# Altium integrated library TI_Logic_Flip-Flop,Latch,Register.IntLib: 2598 symbols (part 50 of 122)
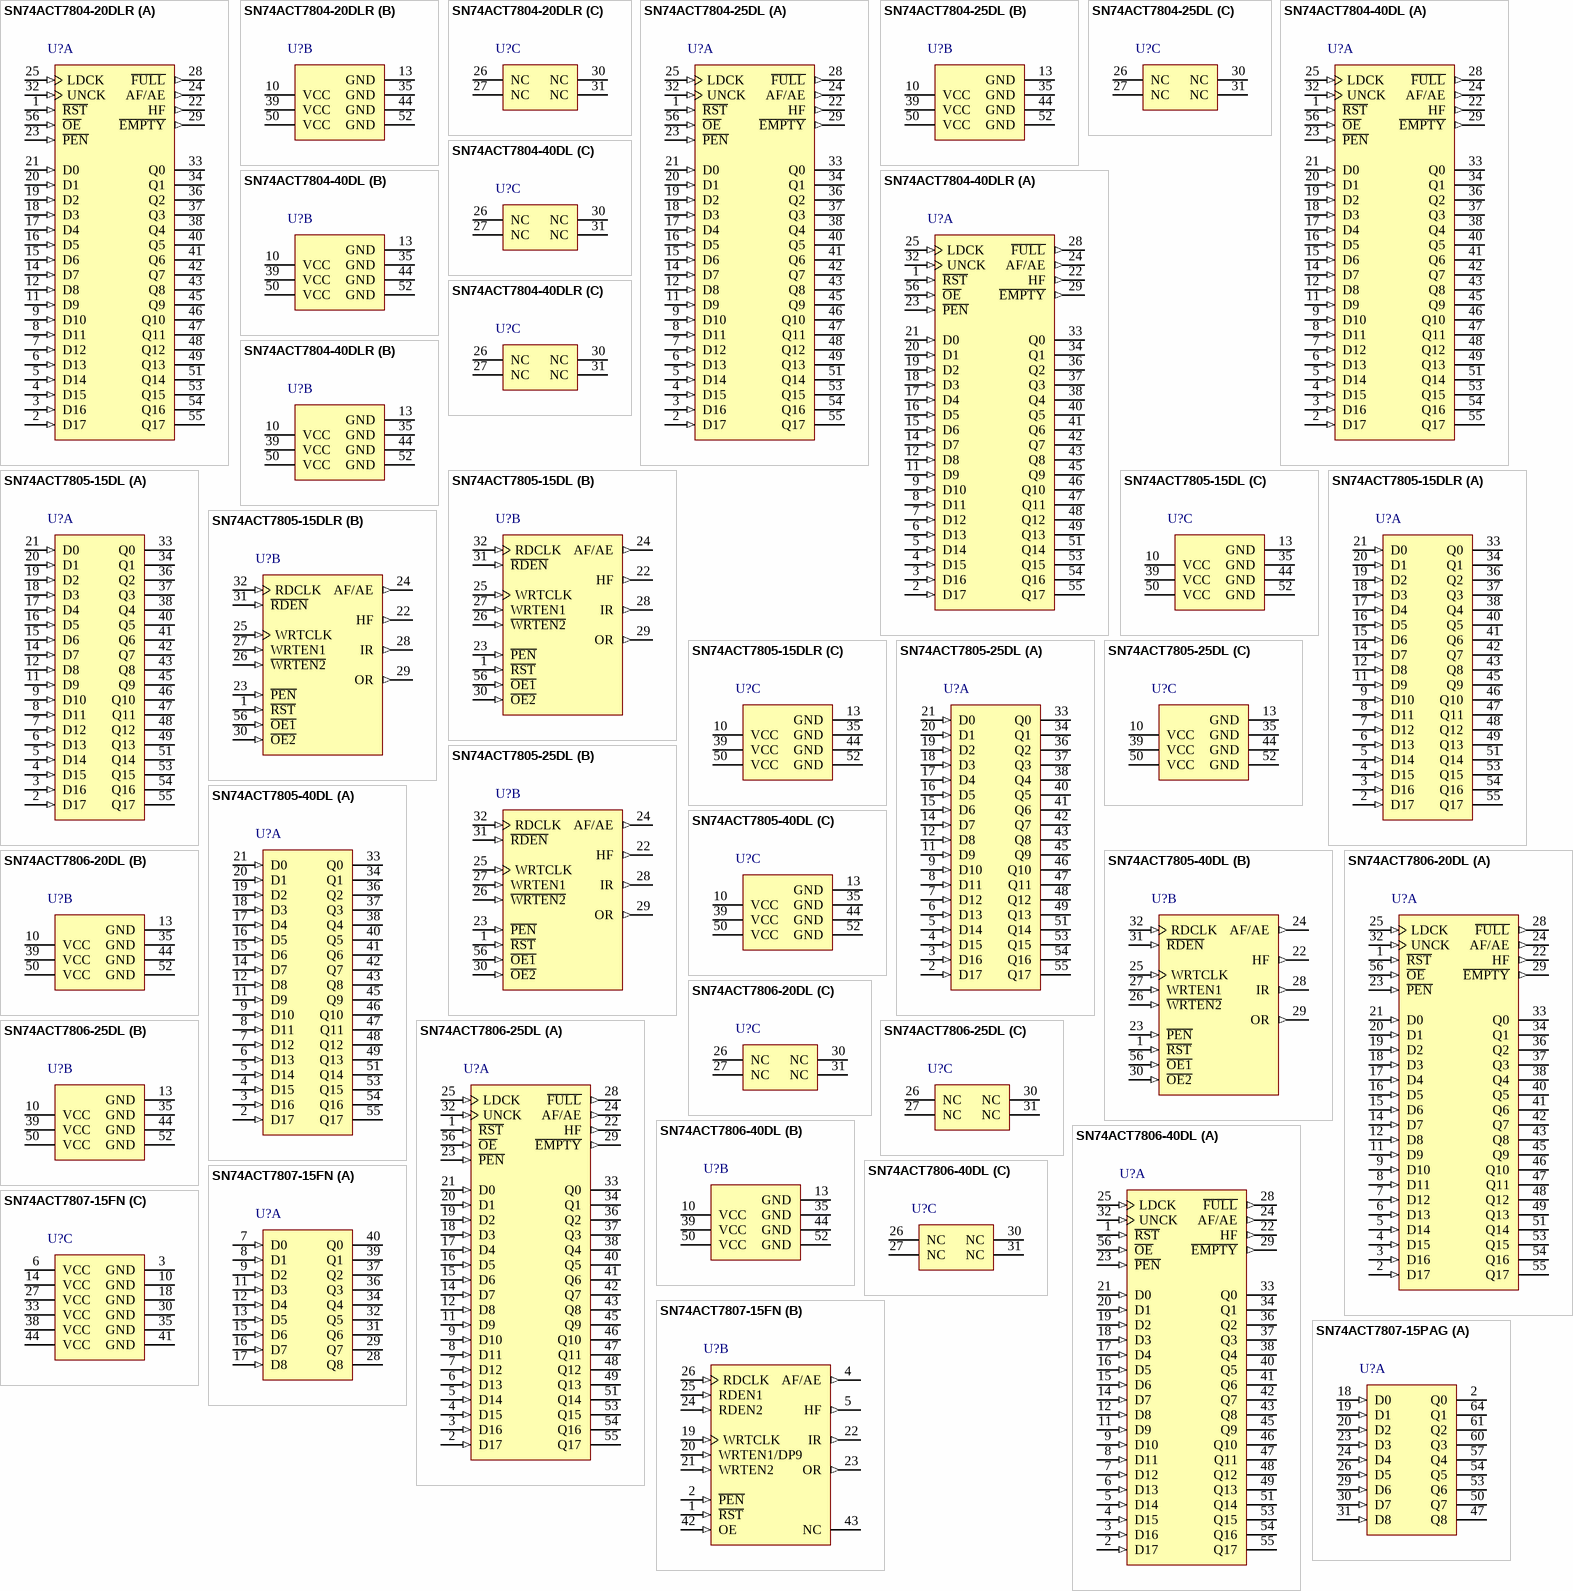
[diagram p188: symbols SN74ACT7804-20DLR to SN74ACT7807-15PAG]

## SN74ACT7805-40DL
designator U?
256 x 18 synchronous FIFO memory, DL0056A, TUBE; Generic Part Number: SN74ACT7805; Manufacturer: Texas Instruments; PartNumber: SN74ACT7805-40DL; Fmax(MHz): 67; Voltage Nodes(V): 5; Sync/Async: S; Rating: Catalog; Output Drive(mA): -0.5; DatasheetVersion: SCAS201B; PackageReference: DL0056A; Depth: 256; Width: 18; Code_JEDEC: MO-118; ComponentLink1Description: Manufacturer URL; ComponentLink1URL: http://www.ti.com/; ComponentLink2Description: Datasheet; ComponentLink2URL: http://www.ti.com/lit/ds/symlink/sn74act7805.pdf; ComponentLink3Description: Package Specification; ComponentLink3URL: http://www.ti.com/lit/ml/mpds491/mpds491.pdf
footprint DL0056A_N (SOP, 56-Leads, Body 7.6x18.5mm, Pitch 0.635mm, IPC Medium Density)
footprint DL0056A_M (SOP, 56-Leads, Body 7.6x18.5mm, Pitch 0.635mm, IPC Low Density)
footprint DL0056A_L (SOP, 56-Leads, Body 7.6x18.5mm, Pitch 0.635mm, IPC High Density)
part A pins: 2 D17 (in) "18-bit data input port", 3 D16 (in) "18-bit data input port", 4 D15 (in) "18-bit data input port", 5 D14 (in) "18-bit data input port", 6 D13 (in) "18-bit data input port", 7 D12 (in) "18-bit data input port", 8 D11 (in) "18-bit data input port", 9 D10 (in) "18-bit data input port", 11 D9 (in) "18-bit data input port", 12 D8 (in) "18-bit data input port", 14 D7 (in) "18-bit data input port", 15 D6 (in) "18-bit data input port", 16 D5 (in) "18-bit data input port", 17 D4 (in) "18-bit data input port", 18 D3 (in) "18-bit data input port", 19 D2 (in) "18-bit data input port", 20 D1 (in) "18-bit data input port", 21 D0 (in) "18-bit data input port", 33 Q0 (hiz) "18-bit data output port. After the first valid write to empty memory, the first word is output on Q0-Q17 on the third rising edge of RDCLK. OR is also asserted high at this time to indicate ready data. When OR is low, th(See Datasheet)", 34 Q1 (hiz) "18-bit data output port. After the first valid write to empty memory, the first word is output on Q0-Q17 on the third rising edge of RDCLK. OR is also asserted high at this time to indicate ready data. When OR is low, th(See Datasheet)", 36 Q2 (hiz) "18-bit data output port. After the first valid write to empty memory, the first word is output on Q0-Q17 on the third rising edge of RDCLK. OR is also asserted high at this time to indicate ready data. When OR is low, th(See Datasheet)", 37 Q3 (hiz) "18-bit data output port. After the first valid write to empty memory, the first word is output on Q0-Q17 on the third rising edge of RDCLK. OR is also asserted high at this time to indicate ready data. When OR is low, th(See Datasheet)", 38 Q4 (hiz) "18-bit data output port. After the first valid write to empty memory, the first word is output on Q0-Q17 on the third rising edge of RDCLK. OR is also asserted high at this time to indicate ready data. When OR is low, th(See Datasheet)", 40 Q5 (hiz) "18-bit data output port. After the first valid write to empty memory, the first word is output on Q0-Q17 on the third rising edge of RDCLK. OR is also asserted high at this time to indicate ready data. When OR is low, th(See Datasheet)", 41 Q6 (hiz) "18-bit data output port. After the first valid write to empty memory, the first word is output on Q0-Q17 on the third rising edge of RDCLK. OR is also asserted high at this time to indicate ready data. When OR is low, th(See Datasheet)", 42 Q7 (hiz) "18-bit data output port. After the first valid write to empty memory, the first word is output on Q0-Q17 on the third rising edge of RDCLK. OR is also asserted high at this time to indicate ready data. When OR is low, th(See Datasheet)", 43 Q8 (hiz) "18-bit data output port. After the first valid write to empty memory, the first word is output on Q0-Q17 on the third rising edge of RDCLK. OR is also asserted high at this time to indicate ready data. When OR is low, th(See Datasheet)", 45 Q9 (hiz) "18-bit data output port. After the first valid write to empty memory, the first word is output on Q0-Q17 on the third rising edge of RDCLK. OR is also asserted high at this time to indicate ready data. When OR is low, th(See Datasheet)", 46 Q10 (hiz) "18-bit data output port. After the first valid write to empty memory, the first word is output on Q0-Q17 on the third rising edge of RDCLK. OR is also asserted high at this time to indicate ready data. When OR is low, th(See Datasheet)", 47 Q11 (hiz) "18-bit data output port. After the first valid write to empty memory, the first word is output on Q0-Q17 on the third rising edge of RDCLK. OR is also asserted high at this time to indicate ready data. When OR is low, th(See Datasheet)", 48 Q12 (hiz) "18-bit data output port. After the first valid write to empty memory, the first word is output on Q0-Q17 on the third rising edge of RDCLK. OR is also asserted high at this time to indicate ready data. When OR is low, th(See Datasheet)", 49 Q13 (hiz) "18-bit data output port. After the first valid write to empty memory, the first word is output on Q0-Q17 on the third rising edge of RDCLK. OR is also asserted high at this time to indicate ready data. When OR is low, th(See Datasheet)", 51 Q14 (hiz) "18-bit data output port. After the first valid write to empty memory, the first word is output on Q0-Q17 on the third rising edge of RDCLK. OR is also asserted high at this time to indicate ready data. When OR is low, th(See Datasheet)", 53 Q15 (hiz) "18-bit data output port. After the first valid write to empty memory, the first word is output on Q0-Q17 on the third rising edge of RDCLK. OR is also asserted high at this time to indicate ready data. When OR is low, th(See Datasheet)", 54 Q16 (hiz) "18-bit data output port. After the first valid write to empty memory, the first word is output on Q0-Q17 on the third rising edge of RDCLK. OR is also asserted high at this time to indicate ready data. When OR is low, th(See Datasheet)", 55 Q17 (hiz) "18-bit data output port. After the first valid write to empty memory, the first word is output on Q0-Q17 on the third rising edge of RDCLK. OR is also asserted high at this time to indicate ready data. When OR is low, th(See Datasheet)"
part B pins: 1 ~{RST} (in) "Reset. To reset the FIFO, four low-to-high transitions of RDCLK and four low-to-high transitions of WRTCLK must occur while R\E\S\E\T\ is low. This sets HF, IR, and OR low and AF/AE high.", 22 HF (out) "Half-full flag. HF is high when the FIFO memory contains 256 or more words. HF is low after reset.", 23 ~{PEN} (in) "Program enable. After reset and before the first word is written to the FIFO, the binary value on D0-D7 is latched as an AF/AE offset value when P\E\N\ is low and WRTCLK is high", 24 AF/AE (out) "Almost-full/almost-empty flag. Depth offset values can be programmed for AF/AE, or the default value of 64 can be used for both the almost-empty offset (X) and the almost-full offset (Y). AF/AE is high when memory contains X (See Datasheet)", 25 WRTCLK (in) "Write clock. WRTCLK is a continuous clock and can be asynchronous or coincident to RDCLK. A low-to-high transition of WRTCLK writes data to memory when W\R\T\E\N\2\ is low, WRTEN1 is high, and IR is high. IR is synchronous (See Datasheet)", 26 ~{WRTEN2} (in) "Write enables. When WRTEN1 is high, W\R\T\E\N\2\ is low, and IR is high, data is written to the FIFO on a low-to-high transition of WRTCLK.", 27 WRTEN1 (in) "Write enables. When WRTEN1 is high, W\R\T\E\N\2\ is low, and IR is high, data is written to the FIFO on a low-to-high transition of WRTCLK.", 28 IR (out) "Input ready flag. IR is synchronized to the low-to-high transition of WRTCLK. When IR is low, the FIFO is full and writes are disabled. IR is low during reset and goes high on the second low-to-high transition of WRTCLK (See Datasheet)", 29 OR (out) "Output ready flag. OR is synchronized to the low-to-high transition of RDCLK. When OR is low, the FIFO is empty and reads are disabled. Ready data is present on Q0-Q17 when OR is high. OR is low during reset and goes hig(See Datasheet)", 30 ~{OE2} (in) "Output enables. When O\E\1\, O\E\2\, and R\D\E\N\ are low and OR is high, data is read from the FIFO on a low-to-high transition of RDCLK. When either O\E\1\ or O\E\2\ is high, reads are disabled and the data outputs are in (See Datasheet)", 31 ~{RDEN} (in) "Read enable. When R\D\E\N\, O\E\1\, and O\E\2\ are low and OR is high, data is read from the FIFO on the low-to-high transition of RDCLK.", 32 RDCLK (in) "Read clock. RDCLK is a continuous clock and can be asynchronous or coincident to WRTCLK. A low-to-high transition of RDCLK reads data from memory when O\E\1\, O\E\2\, and R\D\E\N\ are low and OR is high. OR is synchronous to (See Datasheet)", 56 ~{OE1} (in) "Output enables. When O\E\1\, O\E\2\, and R\D\E\N\ are low and OR is high, data is read from the FIFO on a low-to-high transition of RDCLK. When either O\E\1\ or O\E\2\ is high, reads are disabled and the data outputs are in (See Datasheet)"
part C pins: 10 VCC (power), 13 GND (power), 35 GND (power), 39 VCC (power), 44 GND (power), 50 VCC (power), 52 GND (power)

## SN74ACT7806-20DL
designator U?
256 x 18 asynchronous FIFO memory, DL0056A, TUBE; Generic Part Number: SN74ACT7806; Manufacturer: Texas Instruments; PartNumber: SN74ACT7806-20DL; Vcc range(V): 4.5 to 5.5; Fmax(MHz): 50; Voltage Nodes(V): 5; Sync/Async: A; Rating: Catalog; Output Drive(mA): -0.5; DatasheetVersion: SCAS438C; PackageReference: DL0056A; Depth: 256; Width: 18; Code_JEDEC: MO-118; ComponentLink1Description: Manufacturer URL; ComponentLink1URL: http://www.ti.com/; ComponentLink2Description: Datasheet; ComponentLink2URL: http://www.ti.com/lit/ds/symlink/sn74act7806.pdf; ComponentLink3Description: Package Specification; ComponentLink3URL: http://www.ti.com/lit/ml/mpds491/mpds491.pdf
footprint DL0056A_N (SOP, 56-Leads, Body 7.6x18.5mm, Pitch 0.635mm, IPC Medium Density)
footprint DL0056A_M (SOP, 56-Leads, Body 7.6x18.5mm, Pitch 0.635mm, IPC Low Density)
footprint DL0056A_L (SOP, 56-Leads, Body 7.6x18.5mm, Pitch 0.635mm, IPC High Density)
part A pins: 1 ~{RST} (in) "Reset. A low level on R\E\S\E\T\ resets the FIFO and drives AF/AE and F\U\L\L\ high and HF and E\M\P\T\Y\ low.", 2 D17 (in) "18-bit data input port", 3 D16 (in) "18-bit data input port", 4 D15 (in) "18-bit data input port", 5 D14 (in) "18-bit data input port", 6 D13 (in) "18-bit data input port", 7 D12 (in) "18-bit data input port", 8 D11 (in) "18-bit data input port", 9 D10 (in) "18-bit data input port", 11 D9 (in) "18-bit data input port", 12 D8 (in) "18-bit data input port", 14 D7 (in) "18-bit data input port", 15 D6 (in) "18-bit data input port", 16 D5 (in) "18-bit data input port", 17 D4 (in) "18-bit data input port", 18 D3 (in) "18-bit data input port", 19 D2 (in) "18-bit data input port", 20 D1 (in) "18-bit data input port", 21 D0 (in) "18-bit data input port", 22 HF (out) "Half-full flag. HF is high when the FIFO memory contains 256 or more words. HF is low after reset.", 23 ~{PEN} (in) "Program enable. After reset and before the first word is written to the FIFO, the binary value on D0-D7 is latched as an AF/AE offset value when P\E\N\ is low and LDCK is high.", 24 AF/AE (out) "Almost-full/almost-empty flag. Depth-offset values can be programmed for AF/AE, or the default value of 64 can be used for both the almost-empty offset (X) and the almost-full offset (Y). AF/AE is high when memory contains X (See Datasheet)", 25 LDCK (in) "Load clock. Data is written to the FIFO on the rising edge of LDCK when F\U\L\L\ is high.", 28 ~{FULL} (out) "Full flag. F\U\L\L\ is low when the FIFO is full. A FIFO reset causes F\U\L\L\ to go high.", 29 ~{EMPTY} (out) "Empty flag. E\M\P\T\Y\ is low when the FIFO is empty. A FIFO reset also causes E\M\P\T\Y\ to go low.", 32 UNCK (in) "Unload clock. Data is read from the FIFO on the rising edge of UNCK when E\M\P\T\Y\ is high.", 33 Q0 (hiz) "18-bit data output port", 34 Q1 (hiz) "18-bit data output port", 36 Q2 (hiz) "18-bit data output port", 37 Q3 (hiz) "18-bit data output port", 38 Q4 (hiz) "18-bit data output port", 40 Q5 (hiz) "18-bit data output port", 41 Q6 (hiz) "18-bit data output port", 42 Q7 (hiz) "18-bit data output port", 43 Q8 (hiz) "18-bit data output port", 45 Q9 (hiz) "18-bit data output port", 46 Q10 (hiz) "18-bit data output port", 47 Q11 (hiz) "18-bit data output port", 48 Q12 (hiz) "18-bit data output port", 49 Q13 (hiz) "18-bit data output port", 51 Q14 (hiz) "18-bit data output port", 53 Q15 (hiz) "18-bit data output port", 54 Q16 (hiz) "18-bit data output port", 55 Q17 (hiz) "18-bit data output port", 56 ~{OE} (in) "Output enable. When O\E\ is high, the data outputs are in the high-impedance state."
part B pins: 10 VCC (power), 13 GND (power), 35 GND (power), 39 VCC (power), 44 GND (power), 50 VCC (power), 52 GND (power)
part C pins: 26 NC, 27 NC, 30 NC, 31 NC

## SN74ACT7806-25DL
designator U?
256 x 18 asynchronous FIFO memory, DL0056A, TUBE; Generic Part Number: SN74ACT7806; Manufacturer: Texas Instruments; PartNumber: SN74ACT7806-25DL; Vcc range(V): 4.5 to 5.5; Fmax(MHz): 50; Voltage Nodes(V): 5; Sync/Async: A; Rating: Catalog; Output Drive(mA): -0.5; DatasheetVersion: SCAS438C; PackageReference: DL0056A; Depth: 256; Width: 18; Code_JEDEC: MO-118; ComponentLink1Description: Manufacturer URL; ComponentLink1URL: http://www.ti.com/; ComponentLink2Description: Datasheet; ComponentLink2URL: http://www.ti.com/lit/ds/symlink/sn74act7806.pdf; ComponentLink3Description: Package Specification; ComponentLink3URL: http://www.ti.com/lit/ml/mpds491/mpds491.pdf
footprint DL0056A_N (SOP, 56-Leads, Body 7.6x18.5mm, Pitch 0.635mm, IPC Medium Density)
footprint DL0056A_M (SOP, 56-Leads, Body 7.6x18.5mm, Pitch 0.635mm, IPC Low Density)
footprint DL0056A_L (SOP, 56-Leads, Body 7.6x18.5mm, Pitch 0.635mm, IPC High Density)
part A pins: 1 ~{RST} (in) "Reset. A low level on R\E\S\E\T\ resets the FIFO and drives AF/AE and F\U\L\L\ high and HF and E\M\P\T\Y\ low.", 2 D17 (in) "18-bit data input port", 3 D16 (in) "18-bit data input port", 4 D15 (in) "18-bit data input port", 5 D14 (in) "18-bit data input port", 6 D13 (in) "18-bit data input port", 7 D12 (in) "18-bit data input port", 8 D11 (in) "18-bit data input port", 9 D10 (in) "18-bit data input port", 11 D9 (in) "18-bit data input port", 12 D8 (in) "18-bit data input port", 14 D7 (in) "18-bit data input port", 15 D6 (in) "18-bit data input port", 16 D5 (in) "18-bit data input port", 17 D4 (in) "18-bit data input port", 18 D3 (in) "18-bit data input port", 19 D2 (in) "18-bit data input port", 20 D1 (in) "18-bit data input port", 21 D0 (in) "18-bit data input port", 22 HF (out) "Half-full flag. HF is high when the FIFO memory contains 256 or more words. HF is low after reset.", 23 ~{PEN} (in) "Program enable. After reset and before the first word is written to the FIFO, the binary value on D0-D7 is latched as an AF/AE offset value when P\E\N\ is low and LDCK is high.", 24 AF/AE (out) "Almost-full/almost-empty flag. Depth-offset values can be programmed for AF/AE, or the default value of 64 can be used for both the almost-empty offset (X) and the almost-full offset (Y). AF/AE is high when memory contains X (See Datasheet)", 25 LDCK (in) "Load clock. Data is written to the FIFO on the rising edge of LDCK when F\U\L\L\ is high.", 28 ~{FULL} (out) "Full flag. F\U\L\L\ is low when the FIFO is full. A FIFO reset causes F\U\L\L\ to go high.", 29 ~{EMPTY} (out) "Empty flag. E\M\P\T\Y\ is low when the FIFO is empty. A FIFO reset also causes E\M\P\T\Y\ to go low.", 32 UNCK (in) "Unload clock. Data is read from the FIFO on the rising edge of UNCK when E\M\P\T\Y\ is high.", 33 Q0 (hiz) "18-bit data output port", 34 Q1 (hiz) "18-bit data output port", 36 Q2 (hiz) "18-bit data output port", 37 Q3 (hiz) "18-bit data output port", 38 Q4 (hiz) "18-bit data output port", 40 Q5 (hiz) "18-bit data output port", 41 Q6 (hiz) "18-bit data output port", 42 Q7 (hiz) "18-bit data output port", 43 Q8 (hiz) "18-bit data output port", 45 Q9 (hiz) "18-bit data output port", 46 Q10 (hiz) "18-bit data output port", 47 Q11 (hiz) "18-bit data output port", 48 Q12 (hiz) "18-bit data output port", 49 Q13 (hiz) "18-bit data output port", 51 Q14 (hiz) "18-bit data output port", 53 Q15 (hiz) "18-bit data output port", 54 Q16 (hiz) "18-bit data output port", 55 Q17 (hiz) "18-bit data output port", 56 ~{OE} (in) "Output enable. When O\E\ is high, the data outputs are in the high-impedance state."
part B pins: 10 VCC (power), 13 GND (power), 35 GND (power), 39 VCC (power), 44 GND (power), 50 VCC (power), 52 GND (power)
part C pins: 26 NC, 27 NC, 30 NC, 31 NC

## SN74ACT7806-40DL
designator U?
256 x 18 asynchronous FIFO memory, DL0056A, TUBE; Generic Part Number: SN74ACT7806; Manufacturer: Texas Instruments; PartNumber: SN74ACT7806-40DL; Vcc range(V): 4.5 to 5.5; Fmax(MHz): 50; Voltage Nodes(V): 5; Sync/Async: A; Rating: Catalog; Output Drive(mA): -0.5; DatasheetVersion: SCAS438C; PackageReference: DL0056A; Depth: 256; Width: 18; Code_JEDEC: MO-118; ComponentLink1Description: Manufacturer URL; ComponentLink1URL: http://www.ti.com/; ComponentLink2Description: Datasheet; ComponentLink2URL: http://www.ti.com/lit/ds/symlink/sn74act7806.pdf; ComponentLink3Description: Package Specification; ComponentLink3URL: http://www.ti.com/lit/ml/mpds491/mpds491.pdf
footprint DL0056A_N (SOP, 56-Leads, Body 7.6x18.5mm, Pitch 0.635mm, IPC Medium Density)
footprint DL0056A_M (SOP, 56-Leads, Body 7.6x18.5mm, Pitch 0.635mm, IPC Low Density)
footprint DL0056A_L (SOP, 56-Leads, Body 7.6x18.5mm, Pitch 0.635mm, IPC High Density)
part A pins: 1 ~{RST} (in) "Reset. A low level on R\E\S\E\T\ resets the FIFO and drives AF/AE and F\U\L\L\ high and HF and E\M\P\T\Y\ low.", 2 D17 (in) "18-bit data input port", 3 D16 (in) "18-bit data input port", 4 D15 (in) "18-bit data input port", 5 D14 (in) "18-bit data input port", 6 D13 (in) "18-bit data input port", 7 D12 (in) "18-bit data input port", 8 D11 (in) "18-bit data input port", 9 D10 (in) "18-bit data input port", 11 D9 (in) "18-bit data input port", 12 D8 (in) "18-bit data input port", 14 D7 (in) "18-bit data input port", 15 D6 (in) "18-bit data input port", 16 D5 (in) "18-bit data input port", 17 D4 (in) "18-bit data input port", 18 D3 (in) "18-bit data input port", 19 D2 (in) "18-bit data input port", 20 D1 (in) "18-bit data input port", 21 D0 (in) "18-bit data input port", 22 HF (out) "Half-full flag. HF is high when the FIFO memory contains 256 or more words. HF is low after reset.", 23 ~{PEN} (in) "Program enable. After reset and before the first word is written to the FIFO, the binary value on D0-D7 is latched as an AF/AE offset value when P\E\N\ is low and LDCK is high.", 24 AF/AE (out) "Almost-full/almost-empty flag. Depth-offset values can be programmed for AF/AE, or the default value of 64 can be used for both the almost-empty offset (X) and the almost-full offset (Y). AF/AE is high when memory contains X (See Datasheet)", 25 LDCK (in) "Load clock. Data is written to the FIFO on the rising edge of LDCK when F\U\L\L\ is high.", 28 ~{FULL} (out) "Full flag. F\U\L\L\ is low when the FIFO is full. A FIFO reset causes F\U\L\L\ to go high.", 29 ~{EMPTY} (out) "Empty flag. E\M\P\T\Y\ is low when the FIFO is empty. A FIFO reset also causes E\M\P\T\Y\ to go low.", 32 UNCK (in) "Unload clock. Data is read from the FIFO on the rising edge of UNCK when E\M\P\T\Y\ is high.", 33 Q0 (hiz) "18-bit data output port", 34 Q1 (hiz) "18-bit data output port", 36 Q2 (hiz) "18-bit data output port", 37 Q3 (hiz) "18-bit data output port", 38 Q4 (hiz) "18-bit data output port", 40 Q5 (hiz) "18-bit data output port", 41 Q6 (hiz) "18-bit data output port", 42 Q7 (hiz) "18-bit data output port", 43 Q8 (hiz) "18-bit data output port", 45 Q9 (hiz) "18-bit data output port", 46 Q10 (hiz) "18-bit data output port", 47 Q11 (hiz) "18-bit data output port", 48 Q12 (hiz) "18-bit data output port", 49 Q13 (hiz) "18-bit data output port", 51 Q14 (hiz) "18-bit data output port", 53 Q15 (hiz) "18-bit data output port", 54 Q16 (hiz) "18-bit data output port", 55 Q17 (hiz) "18-bit data output port", 56 ~{OE} (in) "Output enable. When O\E\ is high, the data outputs are in the high-impedance state."
part B pins: 10 VCC (power), 13 GND (power), 35 GND (power), 39 VCC (power), 44 GND (power), 50 VCC (power), 52 GND (power)
part C pins: 26 NC, 27 NC, 30 NC, 31 NC

## SN74ACT7807-15FN
designator U?
2048 x 9 synchronous FIFO memory, FN0044A, TUBE; Generic Part Number: SN74ACT7807; Manufacturer: Texas Instruments; PartNumber: SN74ACT7807-15FN; Fmax(MHz): 67; Voltage Nodes(V): 5; Sync/Async: S; Rating: Catalog; Output Drive(mA): -0.5; DatasheetVersion: SCAS200D; PackageReference: FN0044A; Depth: 2048; Width: 9; Code_JEDEC: MS-018; ComponentLink1Description: Manufacturer URL; ComponentLink1URL: http://www.ti.com/; ComponentLink2Description: Datasheet; ComponentLink2URL: http://www.ti.com/lit/ds/symlink/sn74act7807.pdf; ComponentLink3Description: Package Specification; ComponentLink3URL: http://www.ti.com/lit/ml/mplc004a/mplc004a.pdf
footprint FN0044A_N (PLCC, 44-Leads, Body 16.66x16.66mm, Pitch 1.27mm, IPC Medium Density)
footprint FN0044A_M (PLCC, 44-Leads, Body 16.66x16.66mm, Pitch 1.27mm, IPC Low Density)
footprint FN0044A_L (PLCC, 44-Leads, Body 16.66x16.66mm, Pitch 1.27mm, IPC High Density)
part A pins: 7 D0 (in) "Nine-bit data input port", 8 D1 (in) "Nine-bit data input port", 9 D2 (in) "Nine-bit data input port", 11 D3 (in) "Nine-bit data input port", 12 D4 (in) "Nine-bit data input port", 13 D5 (in) "Nine-bit data input port", 15 D6 (in) "Nine-bit data input port", 16 D7 (in) "Nine-bit data input port", 17 D8 (in) "Nine-bit data input port", 28 Q8 (hiz) "Nine-bit data output port. After the first valid write to empty memory, the first word is output on Q0-Q8 on the third rising edge of RDCLK. OR also is asserted high at this time to indicate ready data. When OR is low, the (See Datasheet)", 29 Q7 (hiz) "Nine-bit data output port. After the first valid write to empty memory, the first word is output on Q0-Q8 on the third rising edge of RDCLK. OR also is asserted high at this time to indicate ready data. When OR is low, the (See Datasheet)", 31 Q6 (hiz) "Nine-bit data output port. After the first valid write to empty memory, the first word is output on Q0-Q8 on the third rising edge of RDCLK. OR also is asserted high at this time to indicate ready data. When OR is low, the (See Datasheet)", 32 Q5 (hiz) "Nine-bit data output port. After the first valid write to empty memory, the first word is output on Q0-Q8 on the third rising edge of RDCLK. OR also is asserted high at this time to indicate ready data. When OR is low, the (See Datasheet)", 34 Q4 (hiz) "Nine-bit data output port. After the first valid write to empty memory, the first word is output on Q0-Q8 on the third rising edge of RDCLK. OR also is asserted high at this time to indicate ready data. When OR is low, the (See Datasheet)", 36 Q3 (hiz) "Nine-bit data output port. After the first valid write to empty memory, the first word is output on Q0-Q8 on the third rising edge of RDCLK. OR also is asserted high at this time to indicate ready data. When OR is low, the (See Datasheet)", 37 Q2 (hiz) "Nine-bit data output port. After the first valid write to empty memory, the first word is output on Q0-Q8 on the third rising edge of RDCLK. OR also is asserted high at this time to indicate ready data. When OR is low, the (See Datasheet)", 39 Q1 (hiz) "Nine-bit data output port. After the first valid write to empty memory, the first word is output on Q0-Q8 on the third rising edge of RDCLK. OR also is asserted high at this time to indicate ready data. When OR is low, the (See Datasheet)", 40 Q0 (hiz) "Nine-bit data output port. After the first valid write to empty memory, the first word is output on Q0-Q8 on the third rising edge of RDCLK. OR also is asserted high at this time to indicate ready data. When OR is low, the (See Datasheet)"
part B pins: 1 ~{RST} (in) "Reset. To reset the FIFO, four low-to-high transitions of RDCLK and four low-to-high transitions of WRTCLK must occur while R\E\S\E\T\ is low. This sets HF, IR, and OR low and AF/AE high.", 2 ~{PEN} (in) "Program enable. After reset and before the first word is written to the FIFO, the binary value on D0-D8 and DP9 is latched as an AF/AE offset value when P\E\N\ is low and WRTCLK is high.", 4 AF/AE (out) "Almost-full/almost-empty flag. Depth offset values can be programmed for AF/AE or the default value of 256 can be used for both the almost-empty offset (X) and the almost-full offset (Y). AF/AE is high when memory contains X (See Datasheet)", 5 HF (out) "Half-full flag. HF is high when the FIFO memory contains 1024 or more words. HF is low after reset.", 19 WRTCLK (in) "Write clock. WRTCLK is a continuous clock and can be asynchronous or coincident to RDCLK. A low-to-high transition of WRTCLK writes data to memory when WRTEN1/DP9, WRTEN2, and IR are high. IR is synchronous to the (See Datasheet)", 20 WRTEN1/DP9 (in) "Write enable/data pin 9. When WRTEN1/DP9, WRTEN2, and IR are high, data is written to the FIFO on a low-to-high transition of WRTCLK. When programming an AF/AE offset value, WRTEN1/DP9 is used as the most-significant data (See Datasheet)", 21 WRTEN2 (in) "Write enable. When WRTEN1/DP9, WRTEN2, and IR are high, data is written to the FIFO on a low-to-high transition of WRTCLK.", 22 IR (out) "Input-ready flag. IR is synchronized to the low-to-high transition of WRTCLK. When IR is low, the FIFO is full and writes are disabled. IR is low during reset and goes high on the second low-to-high transition of WRTCLK (See Datasheet)", 23 OR (out) "Output-ready flag. OR is synchronized to the low-to-high transition of RDCLK. When OR is low, the FIFO is empty and reads are disabled. Ready data is present on Q0-Q17 when OR is high. OR is low during reset and goes high on (See Datasheet)", 24 RDEN2 (in) "Read enables. When RDEN1, RDEN2, OE, and OR are high, data is read from the FIFO on the low-to-high transition of RDCLK.", 25 RDEN1 (in) "Read enables. When RDEN1, RDEN2, OE, and OR are high, data is read from the FIFO on the low-to-high transition of RDCLK.", 26 RDCLK (in) "Read clock. RDCLK is a continuous clock and can be asynchronous or coincident to WRTCLK. A low-to-high transition of RDCLK reads data from memory when RDEN1, RDEN2, OE, and OR are high. OR is synchronous to the low-to-high (See Datasheet)", 42 OE (in) "Output enable. When OE, RDEN1, RDEN2 and OR are high, data is read from the FIFO on a low-to-high transition of RDCLK. When OE is low, reads are disabled and the data outputs are in the high-impedance state.", 43 NC
part C pins: 3 GND (power), 6 VCC (power), 10 GND (power), 14 VCC (power), 18 GND (power), 27 VCC (power), 30 GND (power), 33 VCC (power), 35 GND (power), 38 VCC (power), 41 GND (power), 44 VCC (power)

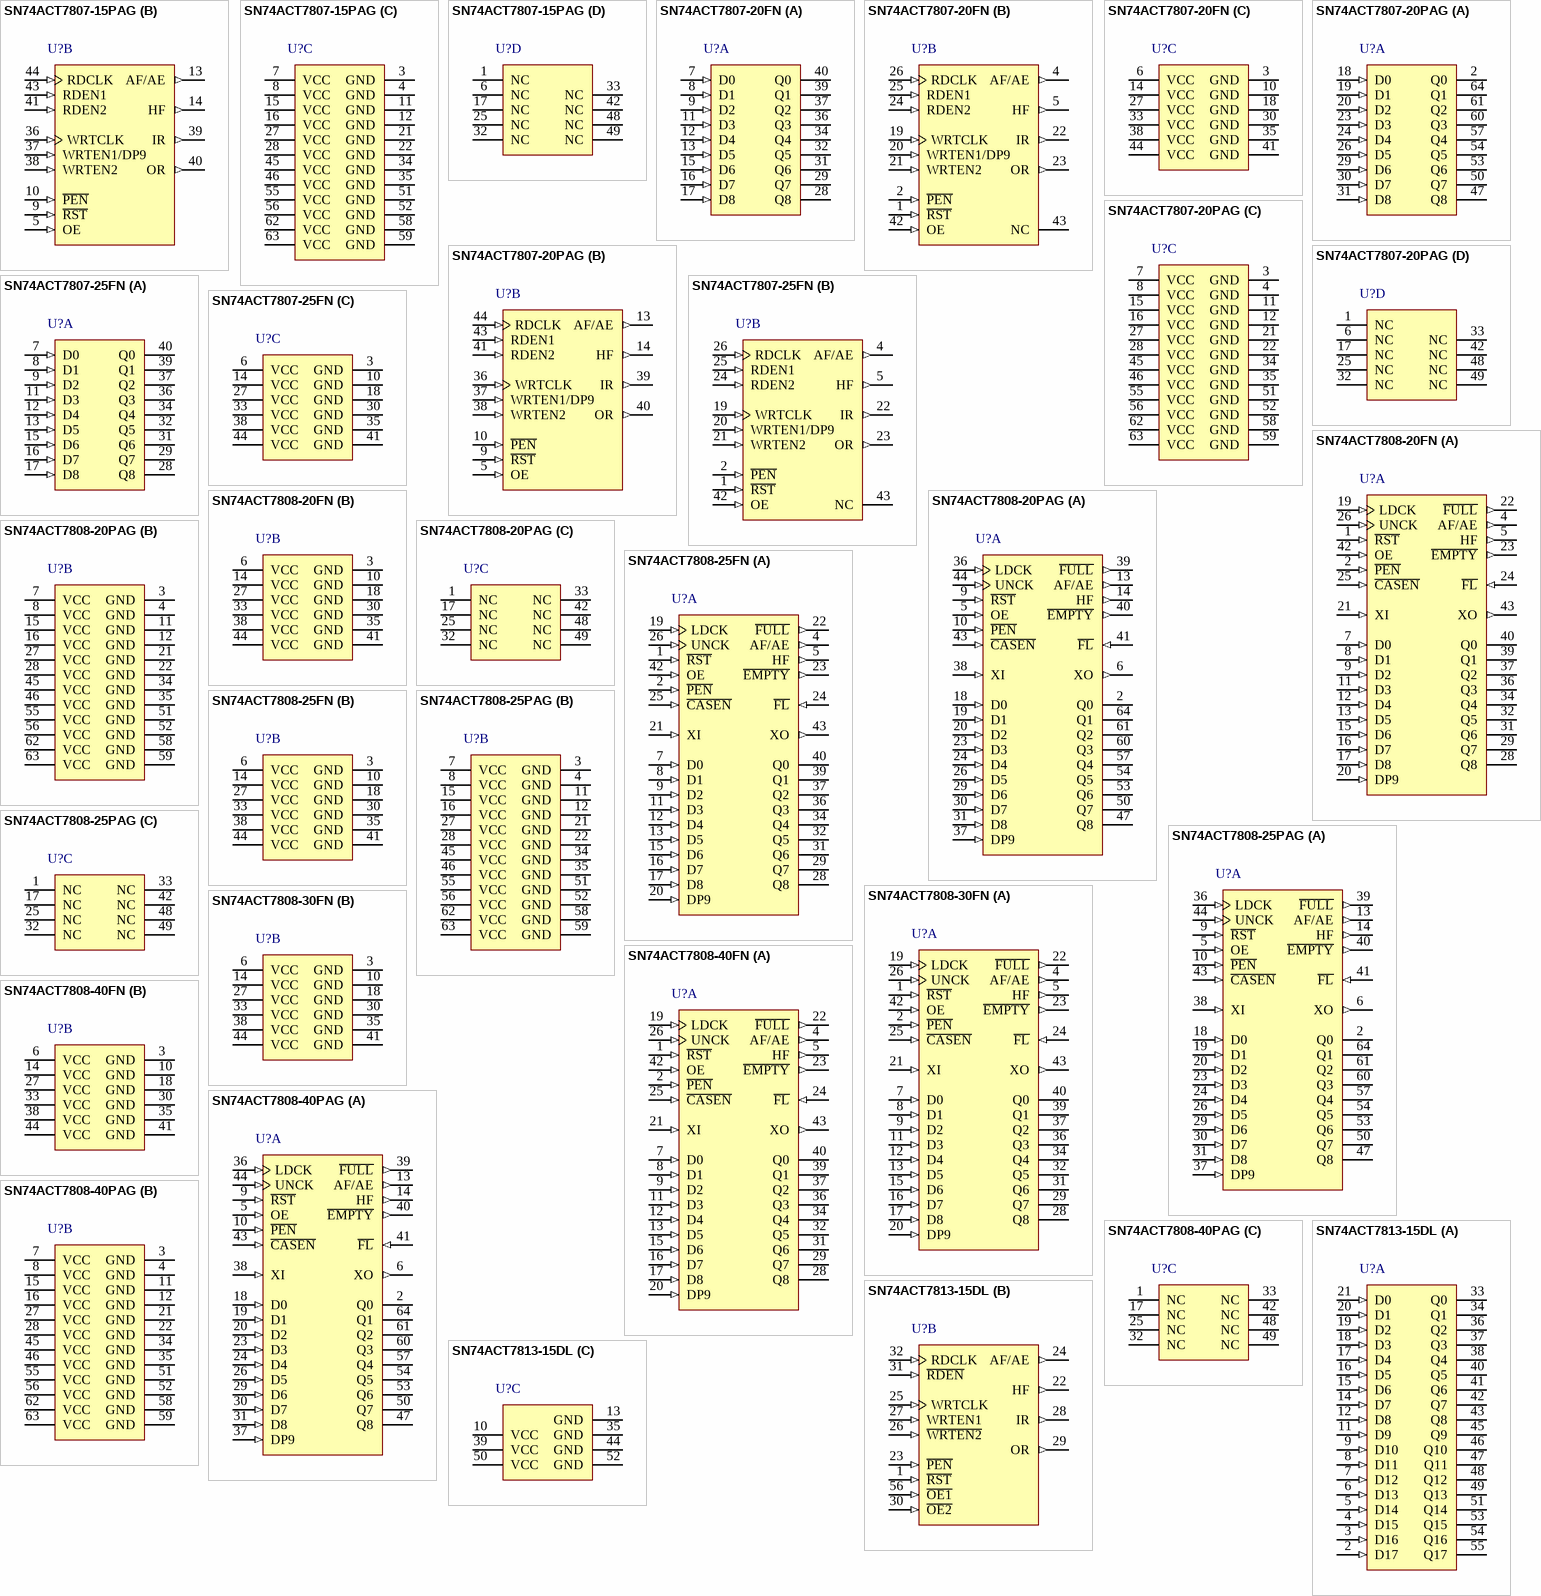
[diagram p61: symbols SN74ACT7807-15PAG to SN74ACT7813-15DL]

## SN74ACT7807-15PAG
designator U?
2048 x 9 synchronous FIFO memory, PAG0064A, JEDEC TRAY (10+1); Generic Part Number: SN74ACT7807; Manufacturer: Texas Instruments; PartNumber: SN74ACT7807-15PAG; Fmax(MHz): 67; Voltage Nodes(V): 5; Sync/Async: S; Rating: Catalog; Output Drive(mA): -0.5; DatasheetVersion: SCAS200D; PackageReference: PAG0064A; Depth: 2048; Width: 9; Code_JEDEC: MS-026; ComponentLink1Description: Manufacturer URL; ComponentLink1URL: http://www.ti.com/; ComponentLink2Description: Datasheet; ComponentLink2URL: http://www.ti.com/lit/ds/symlink/sn74act7807.pdf; ComponentLink3Description: Package Specification; ComponentLink3URL: http://www.ti.com/lit/ml/mtqf006a/mtqf006a.pdf
footprint PAG0064A_N (QFP, 64-Leads, Body 10x10mm, Pitch 0.5mm, IPC Medium Density)
footprint PAG0064A_M (QFP, 64-Leads, Body 10x10mm, Pitch 0.5mm, IPC Low Density)
footprint PAG0064A_L (QFP, 64-Leads, Body 10x10mm, Pitch 0.5mm, IPC High Density)
part A pins: 2 Q0 (hiz) "Nine-bit data output port. After the first valid write to empty memory, the first word is output on Q0-Q8 on the third rising edge of RDCLK. OR also is asserted high at this time to indicate ready data. When OR is low, the (See Datasheet)", 18 D0 (in) "Nine-bit data input port", 19 D1 (in) "Nine-bit data input port", 20 D2 (in) "Nine-bit data input port", 23 D3 (in) "Nine-bit data input port", 24 D4 (in) "Nine-bit data input port", 26 D5 (in) "Nine-bit data input port", 29 D6 (in) "Nine-bit data input port", 30 D7 (in) "Nine-bit data input port", 31 D8 (in) "Nine-bit data input port", 47 Q8 (hiz) "Nine-bit data output port. After the first valid write to empty memory, the first word is output on Q0-Q8 on the third rising edge of RDCLK. OR also is asserted high at this time to indicate ready data. When OR is low, the (See Datasheet)", 50 Q7 (hiz) "Nine-bit data output port. After the first valid write to empty memory, the first word is output on Q0-Q8 on the third rising edge of RDCLK. OR also is asserted high at this time to indicate ready data. When OR is low, the (See Datasheet)", 53 Q6 (hiz) "Nine-bit data output port. After the first valid write to empty memory, the first word is output on Q0-Q8 on the third rising edge of RDCLK. OR also is asserted high at this time to indicate ready data. When OR is low, the (See Datasheet)", 54 Q5 (hiz) "Nine-bit data output port. After the first valid write to empty memory, the first word is output on Q0-Q8 on the third rising edge of RDCLK. OR also is asserted high at this time to indicate ready data. When OR is low, the (See Datasheet)", 57 Q4 (hiz) "Nine-bit data output port. After the first valid write to empty memory, the first word is output on Q0-Q8 on the third rising edge of RDCLK. OR also is asserted high at this time to indicate ready data. When OR is low, the (See Datasheet)", 60 Q3 (hiz) "Nine-bit data output port. After the first valid write to empty memory, the first word is output on Q0-Q8 on the third rising edge of RDCLK. OR also is asserted high at this time to indicate ready data. When OR is low, the (See Datasheet)", 61 Q2 (hiz) "Nine-bit data output port. After the first valid write to empty memory, the first word is output on Q0-Q8 on the third rising edge of RDCLK. OR also is asserted high at this time to indicate ready data. When OR is low, the (See Datasheet)", 64 Q1 (hiz) "Nine-bit data output port. After the first valid write to empty memory, the first word is output on Q0-Q8 on the third rising edge of RDCLK. OR also is asserted high at this time to indicate ready data. When OR is low, the (See Datasheet)"
part B pins: 5 OE (in) "Output enable. When OE, RDEN1, RDEN2 and OR are high, data is read from the FIFO on a low-to-high transition of RDCLK. When OE is low, reads are disabled and the data outputs are in the high-impedance state.", 9 ~{RST} (in) "Reset. To reset the FIFO, four low-to-high transitions of RDCLK and four low-to-high transitions of WRTCLK must occur while R\E\S\E\T\ is low. This sets HF, IR, and OR low and AF/AE high.", 10 ~{PEN} (in) "Program enable. After reset and before the first word is written to the FIFO, the binary value on D0-D8 and DP9 is latched as an AF/AE offset value when P\E\N\ is low and WRTCLK is high.", 13 AF/AE (out) "Almost-full/almost-empty flag. Depth offset values can be programmed for AF/AE or the default value of 256 can be used for both the almost-empty offset (X) and the almost-full offset (Y). AF/AE is high when memory contains X (See Datasheet)", 14 HF (out) "Half-full flag. HF is high when the FIFO memory contains 1024 or more words. HF is low after reset.", 36 WRTCLK (in) "Write clock. WRTCLK is a continuous clock and can be asynchronous or coincident to RDCLK. A low-to-high transition of WRTCLK writes data to memory when WRTEN1/DP9, WRTEN2, and IR are high. IR is synchronous to the (See Datasheet)", 37 WRTEN1/DP9 (in) "Write enable/data pin 9. When WRTEN1/DP9, WRTEN2, and IR are high, data is written to the FIFO on a low-to-high transition of WRTCLK. When programming an AF/AE offset value, WRTEN1/DP9 is used as the most-significant data (See Datasheet)", 38 WRTEN2 (in) "Write enable. When WRTEN1/DP9, WRTEN2, and IR are high, data is written to the FIFO on a low-to-high transition of WRTCLK.", 39 IR (out) "Input-ready flag. IR is synchronized to the low-to-high transition of WRTCLK. When IR is low, the FIFO is full and writes are disabled. IR is low during reset and goes high on the second low-to-high transition of WRTCLK (See Datasheet)", 40 OR (out) "Output-ready flag. OR is synchronized to the low-to-high transition of RDCLK. When OR is low, the FIFO is empty and reads are disabled. Ready data is present on Q0-Q17 when OR is high. OR is low during reset and goes high on (See Datasheet)", 41 RDEN2 (in) "Read enables. When RDEN1, RDEN2, OE, and OR are high, data is read from the FIFO on the low-to-high transition of RDCLK.", 43 RDEN1 (in) "Read enables. When RDEN1, RDEN2, OE, and OR are high, data is read from the FIFO on the low-to-high transition of RDCLK.", 44 RDCLK (in) "Read clock. RDCLK is a continuous clock and can be asynchronous or coincident to WRTCLK. A low-to-high transition of RDCLK reads data from memory when RDEN1, RDEN2, OE, and OR are high. OR is synchronous to the low-to-high (See Datasheet)"
part C pins: 3 GND (power), 4 GND (power), 7 VCC (power), 8 VCC (power), 11 GND (power), 12 GND (power), 15 VCC (power), 16 VCC (power), 21 GND (power), 22 GND (power), 27 VCC (power), 28 VCC (power), 34 GND (power), 35 GND (power), 45 VCC (power), 46 VCC (power), 51 GND (power), 52 GND (power), 55 VCC (power), 56 VCC (power), 58 GND (power), 59 GND (power), 62 VCC (power), 63 VCC (power)
part D pins: 1 NC, 6 NC, 17 NC, 25 NC, 32 NC, 33 NC, 42 NC, 48 NC, 49 NC

## SN74ACT7807-20FN
designator U?
2048 x 9 synchronous FIFO memory, FN0044A, TUBE; Generic Part Number: SN74ACT7807; Manufacturer: Texas Instruments; PartNumber: SN74ACT7807-20FN; Fmax(MHz): 67; Voltage Nodes(V): 5; Sync/Async: S; Rating: Catalog; Output Drive(mA): -0.5; DatasheetVersion: SCAS200D; PackageReference: FN0044A; Depth: 2048; Width: 9; Code_JEDEC: MS-018; ComponentLink1Description: Manufacturer URL; ComponentLink1URL: http://www.ti.com/; ComponentLink2Description: Datasheet; ComponentLink2URL: http://www.ti.com/lit/ds/symlink/sn74act7807.pdf; ComponentLink3Description: Package Specification; ComponentLink3URL: http://www.ti.com/lit/ml/mplc004a/mplc004a.pdf
footprint FN0044A_N (PLCC, 44-Leads, Body 16.66x16.66mm, Pitch 1.27mm, IPC Medium Density)
footprint FN0044A_M (PLCC, 44-Leads, Body 16.66x16.66mm, Pitch 1.27mm, IPC Low Density)
footprint FN0044A_L (PLCC, 44-Leads, Body 16.66x16.66mm, Pitch 1.27mm, IPC High Density)
part A pins: 7 D0 (in) "Nine-bit data input port", 8 D1 (in) "Nine-bit data input port", 9 D2 (in) "Nine-bit data input port", 11 D3 (in) "Nine-bit data input port", 12 D4 (in) "Nine-bit data input port", 13 D5 (in) "Nine-bit data input port", 15 D6 (in) "Nine-bit data input port", 16 D7 (in) "Nine-bit data input port", 17 D8 (in) "Nine-bit data input port", 28 Q8 (hiz) "Nine-bit data output port. After the first valid write to empty memory, the first word is output on Q0-Q8 on the third rising edge of RDCLK. OR also is asserted high at this time to indicate ready data. When OR is low, the (See Datasheet)", 29 Q7 (hiz) "Nine-bit data output port. After the first valid write to empty memory, the first word is output on Q0-Q8 on the third rising edge of RDCLK. OR also is asserted high at this time to indicate ready data. When OR is low, the (See Datasheet)", 31 Q6 (hiz) "Nine-bit data output port. After the first valid write to empty memory, the first word is output on Q0-Q8 on the third rising edge of RDCLK. OR also is asserted high at this time to indicate ready data. When OR is low, the (See Datasheet)", 32 Q5 (hiz) "Nine-bit data output port. After the first valid write to empty memory, the first word is output on Q0-Q8 on the third rising edge of RDCLK. OR also is asserted high at this time to indicate ready data. When OR is low, the (See Datasheet)", 34 Q4 (hiz) "Nine-bit data output port. After the first valid write to empty memory, the first word is output on Q0-Q8 on the third rising edge of RDCLK. OR also is asserted high at this time to indicate ready data. When OR is low, the (See Datasheet)", 36 Q3 (hiz) "Nine-bit data output port. After the first valid write to empty memory, the first word is output on Q0-Q8 on the third rising edge of RDCLK. OR also is asserted high at this time to indicate ready data. When OR is low, the (See Datasheet)", 37 Q2 (hiz) "Nine-bit data output port. After the first valid write to empty memory, the first word is output on Q0-Q8 on the third rising edge of RDCLK. OR also is asserted high at this time to indicate ready data. When OR is low, the (See Datasheet)", 39 Q1 (hiz) "Nine-bit data output port. After the first valid write to empty memory, the first word is output on Q0-Q8 on the third rising edge of RDCLK. OR also is asserted high at this time to indicate ready data. When OR is low, the (See Datasheet)", 40 Q0 (hiz) "Nine-bit data output port. After the first valid write to empty memory, the first word is output on Q0-Q8 on the third rising edge of RDCLK. OR also is asserted high at this time to indicate ready data. When OR is low, the (See Datasheet)"
part B pins: 1 ~{RST} (in) "Reset. To reset the FIFO, four low-to-high transitions of RDCLK and four low-to-high transitions of WRTCLK must occur while R\E\S\E\T\ is low. This sets HF, IR, and OR low and AF/AE high.", 2 ~{PEN} (in) "Program enable. After reset and before the first word is written to the FIFO, the binary value on D0-D8 and DP9 is latched as an AF/AE offset value when P\E\N\ is low and WRTCLK is high.", 4 AF/AE (out) "Almost-full/almost-empty flag. Depth offset values can be programmed for AF/AE or the default value of 256 can be used for both the almost-empty offset (X) and the almost-full offset (Y). AF/AE is high when memory contains X (See Datasheet)", 5 HF (out) "Half-full flag. HF is high when the FIFO memory contains 1024 or more words. HF is low after reset.", 19 WRTCLK (in) "Write clock. WRTCLK is a continuous clock and can be asynchronous or coincident to RDCLK. A low-to-high transition of WRTCLK writes data to memory when WRTEN1/DP9, WRTEN2, and IR are high. IR is synchronous to the (See Datasheet)", 20 WRTEN1/DP9 (in) "Write enable/data pin 9. When WRTEN1/DP9, WRTEN2, and IR are high, data is written to the FIFO on a low-to-high transition of WRTCLK. When programming an AF/AE offset value, WRTEN1/DP9 is used as the most-significant data (See Datasheet)", 21 WRTEN2 (in) "Write enable. When WRTEN1/DP9, WRTEN2, and IR are high, data is written to the FIFO on a low-to-high transition of WRTCLK.", 22 IR (out) "Input-ready flag. IR is synchronized to the low-to-high transition of WRTCLK. When IR is low, the FIFO is full and writes are disabled. IR is low during reset and goes high on the second low-to-high transition of WRTCLK (See Datasheet)", 23 OR (out) "Output-ready flag. OR is synchronized to the low-to-high transition of RDCLK. When OR is low, the FIFO is empty and reads are disabled. Ready data is present on Q0-Q17 when OR is high. OR is low during reset and goes high on (See Datasheet)", 24 RDEN2 (in) "Read enables. When RDEN1, RDEN2, OE, and OR are high, data is read from the FIFO on the low-to-high transition of RDCLK.", 25 RDEN1 (in) "Read enables. When RDEN1, RDEN2, OE, and OR are high, data is read from the FIFO on the low-to-high transition of RDCLK.", 26 RDCLK (in) "Read clock. RDCLK is a continuous clock and can be asynchronous or coincident to WRTCLK. A low-to-high transition of RDCLK reads data from memory when RDEN1, RDEN2, OE, and OR are high. OR is synchronous to the low-to-high (See Datasheet)", 42 OE (in) "Output enable. When OE, RDEN1, RDEN2 and OR are high, data is read from the FIFO on a low-to-high transition of RDCLK. When OE is low, reads are disabled and the data outputs are in the high-impedance state.", 43 NC
part C pins: 3 GND (power), 6 VCC (power), 10 GND (power), 14 VCC (power), 18 GND (power), 27 VCC (power), 30 GND (power), 33 VCC (power), 35 GND (power), 38 VCC (power), 41 GND (power), 44 VCC (power)

## SN74ACT7807-20PAG
designator U?
2048 x 9 synchronous FIFO memory, PAG0064A, JEDEC TRAY (10+1); Generic Part Number: SN74ACT7807; Manufacturer: Texas Instruments; PartNumber: SN74ACT7807-20PAG; Fmax(MHz): 67; Voltage Nodes(V): 5; Sync/Async: S; Rating: Catalog; Output Drive(mA): -0.5; DatasheetVersion: SCAS200D; PackageReference: PAG0064A; Depth: 2048; Width: 9; Code_JEDEC: MS-026; ComponentLink1Description: Manufacturer URL; ComponentLink1URL: http://www.ti.com/; ComponentLink2Description: Datasheet; ComponentLink2URL: http://www.ti.com/lit/ds/symlink/sn74act7807.pdf; ComponentLink3Description: Package Specification; ComponentLink3URL: http://www.ti.com/lit/ml/mtqf006a/mtqf006a.pdf
footprint PAG0064A_N (QFP, 64-Leads, Body 10x10mm, Pitch 0.5mm, IPC Medium Density)
footprint PAG0064A_M (QFP, 64-Leads, Body 10x10mm, Pitch 0.5mm, IPC Low Density)
footprint PAG0064A_L (QFP, 64-Leads, Body 10x10mm, Pitch 0.5mm, IPC High Density)
part A pins: 2 Q0 (hiz) "Nine-bit data output port. After the first valid write to empty memory, the first word is output on Q0-Q8 on the third rising edge of RDCLK. OR also is asserted high at this time to indicate ready data. When OR is low, the (See Datasheet)", 18 D0 (in) "Nine-bit data input port", 19 D1 (in) "Nine-bit data input port", 20 D2 (in) "Nine-bit data input port", 23 D3 (in) "Nine-bit data input port", 24 D4 (in) "Nine-bit data input port", 26 D5 (in) "Nine-bit data input port", 29 D6 (in) "Nine-bit data input port", 30 D7 (in) "Nine-bit data input port", 31 D8 (in) "Nine-bit data input port", 47 Q8 (hiz) "Nine-bit data output port. After the first valid write to empty memory, the first word is output on Q0-Q8 on the third rising edge of RDCLK. OR also is asserted high at this time to indicate ready data. When OR is low, the (See Datasheet)", 50 Q7 (hiz) "Nine-bit data output port. After the first valid write to empty memory, the first word is output on Q0-Q8 on the third rising edge of RDCLK. OR also is asserted high at this time to indicate ready data. When OR is low, the (See Datasheet)", 53 Q6 (hiz) "Nine-bit data output port. After the first valid write to empty memory, the first word is output on Q0-Q8 on the third rising edge of RDCLK. OR also is asserted high at this time to indicate ready data. When OR is low, the (See Datasheet)", 54 Q5 (hiz) "Nine-bit data output port. After the first valid write to empty memory, the first word is output on Q0-Q8 on the third rising edge of RDCLK. OR also is asserted high at this time to indicate ready data. When OR is low, the (See Datasheet)", 57 Q4 (hiz) "Nine-bit data output port. After the first valid write to empty memory, the first word is output on Q0-Q8 on the third rising edge of RDCLK. OR also is asserted high at this time to indicate ready data. When OR is low, the (See Datasheet)", 60 Q3 (hiz) "Nine-bit data output port. After the first valid write to empty memory, the first word is output on Q0-Q8 on the third rising edge of RDCLK. OR also is asserted high at this time to indicate ready data. When OR is low, the (See Datasheet)", 61 Q2 (hiz) "Nine-bit data output port. After the first valid write to empty memory, the first word is output on Q0-Q8 on the third rising edge of RDCLK. OR also is asserted high at this time to indicate ready data. When OR is low, the (See Datasheet)", 64 Q1 (hiz) "Nine-bit data output port. After the first valid write to empty memory, the first word is output on Q0-Q8 on the third rising edge of RDCLK. OR also is asserted high at this time to indicate ready data. When OR is low, the (See Datasheet)"
part B pins: 5 OE (in) "Output enable. When OE, RDEN1, RDEN2 and OR are high, data is read from the FIFO on a low-to-high transition of RDCLK. When OE is low, reads are disabled and the data outputs are in the high-impedance state.", 9 ~{RST} (in) "Reset. To reset the FIFO, four low-to-high transitions of RDCLK and four low-to-high transitions of WRTCLK must occur while R\E\S\E\T\ is low. This sets HF, IR, and OR low and AF/AE high.", 10 ~{PEN} (in) "Program enable. After reset and before the first word is written to the FIFO, the binary value on D0-D8 and DP9 is latched as an AF/AE offset value when P\E\N\ is low and WRTCLK is high.", 13 AF/AE (out) "Almost-full/almost-empty flag. Depth offset values can be programmed for AF/AE or the default value of 256 can be used for both the almost-empty offset (X) and the almost-full offset (Y). AF/AE is high when memory contains X (See Datasheet)", 14 HF (out) "Half-full flag. HF is high when the FIFO memory contains 1024 or more words. HF is low after reset.", 36 WRTCLK (in) "Write clock. WRTCLK is a continuous clock and can be asynchronous or coincident to RDCLK. A low-to-high transition of WRTCLK writes data to memory when WRTEN1/DP9, WRTEN2, and IR are high. IR is synchronous to the (See Datasheet)", 37 WRTEN1/DP9 (in) "Write enable/data pin 9. When WRTEN1/DP9, WRTEN2, and IR are high, data is written to the FIFO on a low-to-high transition of WRTCLK. When programming an AF/AE offset value, WRTEN1/DP9 is used as the most-significant data (See Datasheet)", 38 WRTEN2 (in) "Write enable. When WRTEN1/DP9, WRTEN2, and IR are high, data is written to the FIFO on a low-to-high transition of WRTCLK.", 39 IR (out) "Input-ready flag. IR is synchronized to the low-to-high transition of WRTCLK. When IR is low, the FIFO is full and writes are disabled. IR is low during reset and goes high on the second low-to-high transition of WRTCLK (See Datasheet)", 40 OR (out) "Output-ready flag. OR is synchronized to the low-to-high transition of RDCLK. When OR is low, the FIFO is empty and reads are disabled. Ready data is present on Q0-Q17 when OR is high. OR is low during reset and goes high on (See Datasheet)", 41 RDEN2 (in) "Read enables. When RDEN1, RDEN2, OE, and OR are high, data is read from the FIFO on the low-to-high transition of RDCLK.", 43 RDEN1 (in) "Read enables. When RDEN1, RDEN2, OE, and OR are high, data is read from the FIFO on the low-to-high transition of RDCLK.", 44 RDCLK (in) "Read clock. RDCLK is a continuous clock and can be asynchronous or coincident to WRTCLK. A low-to-high transition of RDCLK reads data from memory when RDEN1, RDEN2, OE, and OR are high. OR is synchronous to the low-to-high (See Datasheet)"
part C pins: 3 GND (power), 4 GND (power), 7 VCC (power), 8 VCC (power), 11 GND (power), 12 GND (power), 15 VCC (power), 16 VCC (power), 21 GND (power), 22 GND (power), 27 VCC (power), 28 VCC (power), 34 GND (power), 35 GND (power), 45 VCC (power), 46 VCC (power), 51 GND (power), 52 GND (power), 55 VCC (power), 56 VCC (power), 58 GND (power), 59 GND (power), 62 VCC (power), 63 VCC (power)
part D pins: 1 NC, 6 NC, 17 NC, 25 NC, 32 NC, 33 NC, 42 NC, 48 NC, 49 NC